# EAGLE library part XFMR_LL1678 (library wheat)
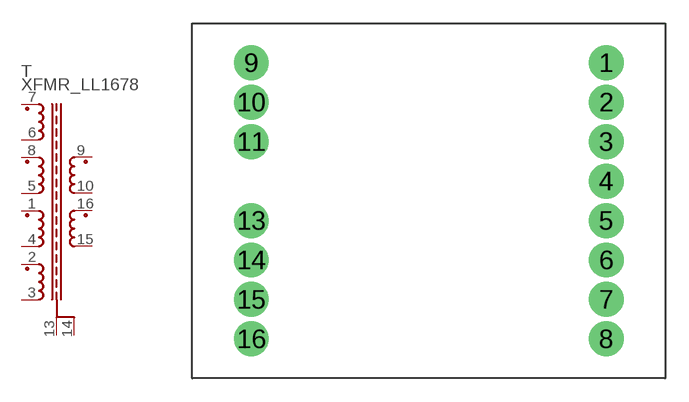
[diagram p164: symbol with the pads of XFMR_LL1678; footprint XFMR_LL1678]

Designator prefix T

## XFMR_LL1678  [XFMR_LL1678]
1  1  pas
2  2  pas
3  3  pas
4  4  pas
5  5  pas
6  6  pas
7  7  pas
8  8  pas
9  9  pas
10  10  pas
13  13  pas
14  14  pas
15  15  pas
16  16  pas

## Footprint XFMR_LL1678 (pad centres in mm)
drill 1.5: 1 11.43,8.89; 2 11.43,6.35; 3 11.43,3.81; 4 11.43,1.27; 5 11.43,-1.27; 6 11.43,-3.81; 7 11.43,-6.35; 8 11.43,-8.89; 9 -11.43,8.89; 10 -11.43,6.35; 11 -11.43,3.81; 13 -11.43,-1.27; 14 -11.43,-3.81; 15 -11.43,-6.35; 16 -11.43,-8.89